# EAGLE library part LCD_2X16 (library displays)
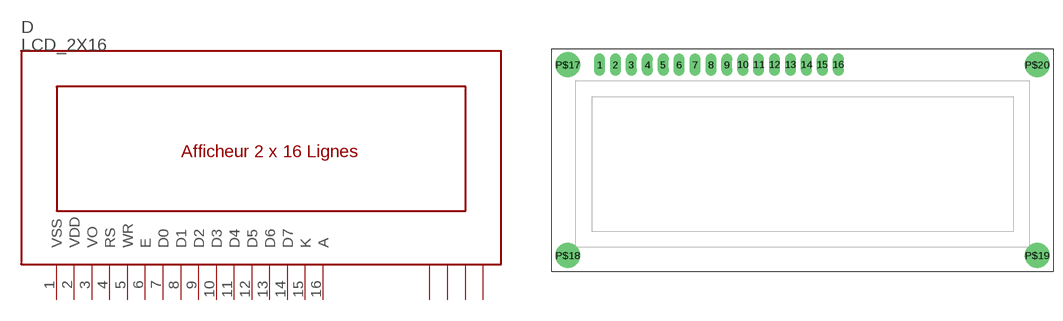
[diagram p2: symbol with the pads of LCD_2X16; footprint LCD_2X16]

Designator prefix D

## LCD_2X16  [LCD_2X16]
1  VSS
2  VDD
3  VO
4  RS
5  WR
6  E
7  D0
8  D1
9  D2
10  D3
11  D4
12  D5
13  D6
14  D7
15  K
16  A
P$17  P$17
P$18  P$18
P$19  P$19
P$20  P$20

## Footprint LCD_2X16 (pad centres in mm)
drill 1 pad 1.778 long: 1 -31.75,15.24; 2 -29.21,15.24; 3 -26.67,15.24; 4 -24.13,15.24; 5 -21.59,15.24; 6 -19.05,15.24; 7 -16.51,15.24; 8 -13.97,15.24; 9 -11.43,15.24; 10 -8.89,15.24; 11 -6.35,15.24; 12 -3.81,15.24; 13 -1.27,15.24; 14 1.27,15.24; 15 3.81,15.24; 16 6.35,15.24
drill 3 pad 3.81: P$17 -36.83,15.24; P$18 -36.83,-15.24; P$19 38.1,-15.24; P$20 38.1,15.24